# Altium schematic symbol library Video.SchLib: 38 symbols
Pins are listed as number, name and electrical type; pins without a type are passive.

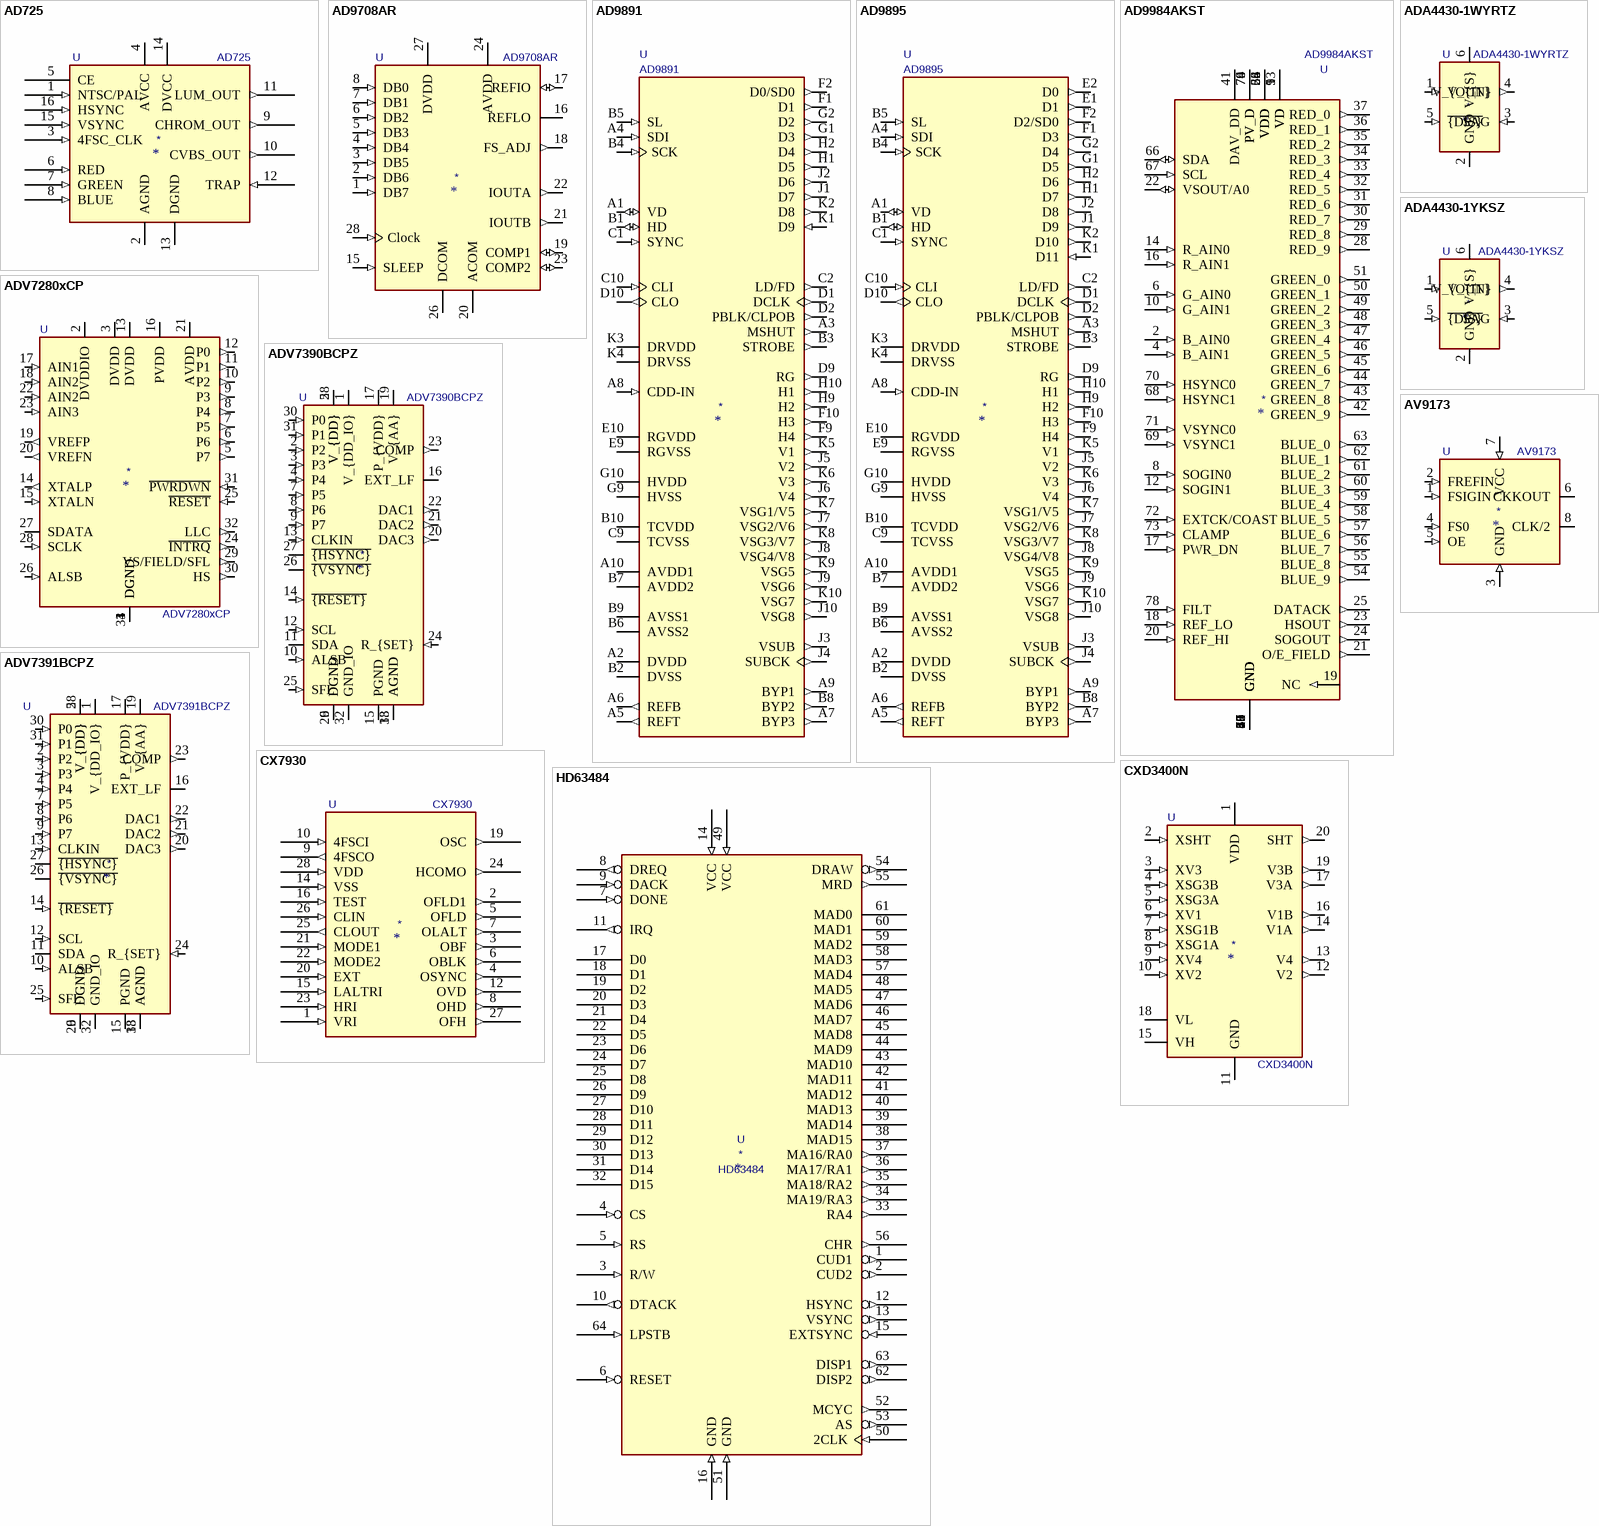
[diagram p0: symbols AD725 to HD63484]

## AD725
designator *  value AD725  Reference: U
Low Cost RGB to NTSC/PAL Encoder with Luma Trap Port; ki_keywords: Video; ki_fp_filters: SOIC*7.5x10.3mm*P1.27mm*; Footprint: Package_SO:SOIC-16W_7.5x10.3mm_P1.27mm; Datasheet: https://www.analog.com/media/en/technical-documentation/data-sheets/AD725.pdf; Description_: Low Cost RGB to NTSC/PAL Encoder with Luma Trap Port
pins: 1 NTSC/PAL (in), 2 AGND (power), 3 4FSC_CLK (in), 4 AVCC (power), 5 CE (power), 6 RED (in), 7 GREEN (in), 8 BLUE (in), 9 CHROM_OUT (out), 10 CVBS_OUT (out), 11 LUM_OUT (out), 12 TRAP (in), 13 DGND (power), 14 DVCC (power), 15 VSYNC (in), 16 HSYNC (in)

## AD9708AR
designator *  value AD9708AR  Reference: U
Video DAC (32 MHz), SOIC/TSSOP-28; ki_keywords: DAC CNA VIDEO; Datasheet: https://www.analog.com/media/en/technical-documentation/data-sheets/AD9708.pdf; Description_: Video DAC (32 MHz), SOIC/TSSOP-28
pins: 1 DB7 (in), 2 DB6 (in), 3 DB5 (in), 4 DB4 (in), 5 DB3 (in), 6 DB2 (in), 7 DB1 (in), 8 DB0 (in), 15 SLEEP (in), 16 REFLO (power), 17 REFIO (io), 18 FS_ADJ (out), 19 COMP1 (io), 20 ACOM (power), 21 IOUTB (out), 22 IOUTA (out), 23 COMP2 (io), 24 AVDD (power), 26 DCOM (power), 27 DVDD (power), 28 Clock (in)

## AD9891
designator *  value AD9891  Reference: U
CCD Signal Processor, 20MHz 10bits, CSPBGA-64; ki_fp_filters: BGA*9.0x9.0mm*Layout10x10*P0.8mm*; Footprint: Package_BGA:BGA-64_9.0x9.0mm_Layout10x10_P0.8mm; Datasheet: https://www.analog.com/static/imported-files/data_sheets/AD9891_9895.pdf; Description_: CCD Signal Processor, 20MHz 10bits, CSPBGA-64; ki_keywords: CCD Signal Processor
pins: A1 VD (io), A2 DVDD (power), A3 MSHUT (out), A4 SDI (in), A5 REFT (out), A6 REFB (out), A7 BYP3 (out), A8 CDD-IN (in), A9 BYP1 (out), A10 AVDD1 (power), B1 HD (io), B2 DVSS (power), B3 STROBE (out), B4 SCK (in), B5 SL (in), B6 AVSS2 (power), B7 AVDD2 (power), B8 BYP2 (out), B9 AVSS1 (power), B10 TCVDD (power), C1 SYNC (in), C2 LD/FD (out), C9 TCVSS (power), C10 CLI (in), D1 DCLK (out), D2 PBLK/CLPOB (out), D9 RG (out), D10 CLO (out), E9 RGVSS (power), E10 RGVDD (power), F1 D1 (out), F2 D0/SD0 (out), F9 H4 (out), F10 H3 (out), G1 D3 (out), G2 D2 (out), G9 HVSS (power), G10 HVDD (power), H1 D5 (out), H2 D4 (out), H9 H2 (out), H10 H1 (out), J1 D7 (out), J2 D6 (out), J3 VSUB (out), J4 SUBCK (out), J5 V2 (out), J6 V4 (out), J7 VSG2/V6 (out), J8 VSG4/V8 (out), J9 VSG6 (out), J10 VSG8 (out), K1 D9 (in), K2 D8 (out), K3 DRVDD (power), K4 DRVSS (power), K5 V1 (out), K6 V3 (out), K7 VSG1/V5 (out), K8 VSG3/V7 (out), K9 VSG5 (out), K10 VSG7 (out)

## AD9895
designator *  value AD9895  Reference: U
CCD Signal Processor, 30MHz 12bits, CSPBGA-64; ki_fp_filters: BGA*9.0x9.0mm*Layout10x10*P0.8mm*; Footprint: Package_BGA:BGA-64_9.0x9.0mm_Layout10x10_P0.8mm; Datasheet: https://www.analog.com/static/imported-files/data_sheets/AD9891_9895.pdf; Description_: CCD Signal Processor, 30MHz 12bits, CSPBGA-64; ki_keywords: CCD Signal Processor
pins: A1 VD (io), A2 DVDD (power), A3 MSHUT (out), A4 SDI (in), A5 REFT (out), A6 REFB (out), A7 BYP3 (out), A8 CDD-IN (in), A9 BYP1 (out), A10 AVDD1 (power), B1 HD (io), B2 DVSS (power), B3 STROBE (out), B4 SCK (in), B5 SL (in), B6 AVSS2 (power), B7 AVDD2 (power), B8 BYP2 (out), B9 AVSS1 (power), B10 TCVDD (power), C1 SYNC (in), C2 LD/FD (out), C9 TCVSS (power), C10 CLI (in), D1 DCLK (out), D2 PBLK/CLPOB (out), D9 RG (out), D10 CLO (out), E1 D1 (out), E2 D0 (out), E9 RGVSS (power), E10 RGVDD (power), F1 D3 (out), F2 D2/SD0 (out), F9 H4 (out), F10 H3 (out), G1 D5 (out), G2 D4 (out), G9 HVSS (power), G10 HVDD (power), H1 D7 (out), H2 D6 (out), H9 H2 (out), H10 H1 (out), J1 D9 (out), J2 D8 (out), J3 VSUB (out), J4 SUBCK (out), J5 V2 (out), J6 V4 (out), J7 VSG2/V6 (out), J8 VSG4/V8 (out), J9 VSG6 (out), J10 VSG8 (out), K1 D11 (in), K2 D10 (out), K3 DRVDD (power), K4 DRVSS (power), K5 V1 (out), K6 V3 (out), K7 VSG1/V5 (out), K8 VSG3/V7 (out), K9 VSG5 (out), K10 VSG7 (out)

## AD9984AKST
designator *  value AD9984AKST  Reference: U
High Performance 10-Bit Display Interface 140/170MSPS, LQFP-80; ki_keywords: 10bit video display interface; ki_fp_filters: *LQFP*14x14mm*P0.65mm*; Footprint: Package_QFP:LQFP-80_14x14mm_P0.65mm; Datasheet: http://www.analog.com/media/en/technical-documentation/data-sheets/AD9984A.pdf; Description_: High Performance 10-Bit Display Interface 140/170MSPS, LQFP-80
pins: 1 VD (power), 2 B_AIN0 (in), 3 GND (power), 4 B_AIN1 (in), 5 VD, 6 G_AIN0 (in), 7 GND, 8 SOGIN0 (in), 9 VD, 10 G_AIN1 (in), 11 GND, 12 SOGIN1 (in), 13 VD, 14 R_AIN0 (in), 15 GND, 16 R_AIN1 (in), 17 PWR_DN (in), 18 REF_LO (in), 19 NC (in), 20 REF_HI (in), 21 O/E_FIELD (out), 22 VSOUT/A0 (io), 23 HSOUT (out), 24 SOGOUT (out), 25 DATACK (out), 26 VDD (power), 27 GND, 28 RED_9 (out), 29 RED_8 (out), 30 RED_7 (out), 31 RED_6 (out), 32 RED_5 (out), 33 RED_4 (out), 34 RED_3 (out), 35 RED_2 (out), 36 RED_1 (out), 37 RED_0 (out), 38 VDD, 39 GND, 40 GND, 41 DAV_DD (power), 42 GREEN_9 (out), 43 GREEN_8 (out), 44 GREEN_7 (out), 45 GREEN_6 (out), 46 GREEN_5 (out), 47 GREEN_4 (out), 48 GREEN_3 (out), 49 GREEN_2 (out), 50 GREEN_1 (out), 51 GREEN_0 (out), 52 VDD, 53 GND, 54 BLUE_9 (out), 55 BLUE_8 (out), 56 BLUE_7 (out), 57 BLUE_6 (out), 58 BLUE_5 (out), 59 BLUE_4 (out), 60 BLUE_3 (out), 61 BLUE_2 (out), 62 BLUE_1 (out), 63 BLUE_0 (out), 64 VDD, 65 GND, 66 SDA (io), 67 SCL (in), 68 HSYNC1 (in), 69 VSYNC1 (in), 70 HSYNC0 (in), 71 VSYNC0 (in), 72 EXTCK/COAST (in), 73 CLAMP (in), 74 PV_D (power), 75 GND, 76 PV_D, 77 GND, 78 FILT (in), 79 PV_D, 80 GND
1 alternate drawing of the same symbol

## ADA4430-1WYRTZ
designator *  value ADA4430-1WYRTZ  Reference: U
Ultralow Power, Video Filter, Power-Down, SOT-23; ki_fp_filters: SOT?23*; Footprint: Package_TO_SOT_SMD:SOT-23-6; Datasheet: https://www.analog.com/media/en/technical-documentation/data-sheets/ADA4430-1.pdf; Description_: Ultralow Power, Video Filter, Power-Down, SOT-23; ki_keywords: Video Filter
pins: 1 V_{IN} (in), 2 GND (power), 3 SAG (in), 4 V_{OUT} (out), 5 ~{{DIS}} (in), 6 V_{S} (power)

## ADA4430-1YKSZ
designator *  value ADA4430-1YKSZ  Reference: U
Ultralow Power, Video Filter, Power-Down, SOT-363; ki_fp_filters: SOT?363*; Footprint: Package_TO_SOT_SMD:SOT-363_SC-70-6; Datasheet: https://www.analog.com/media/en/technical-documentation/data-sheets/ADA4430-1.pdf; Description_: Ultralow Power, Video Filter, Power-Down, SOT-363; ki_keywords: Video Filter
pins: 1 V_{IN} (in), 2 GND (power), 3 SAG (in), 4 V_{OUT} (out), 5 ~{{DIS}} (in), 6 V_{S} (power)

## ADV7280xCP
designator *  value ADV7280xCP  Reference: U
10-Bit, 4x Oversampled SDTV Video Decoder with Deinterlacer, LFCSP-32; ki_fp_filters: LFCSP*1EP*5x5mm*P0.5mm*; Footprint: Package_CSP:LFCSP-32-1EP_5x5mm_P0.5mm_EP3.6x3.6mm; Datasheet: https://www.analog.com/media/en/technical-documentation/data-sheets/ADV7280.PDF; Description_: 10-Bit, 4x Oversampled SDTV Video Decoder with Deinterlacer, LFCSP-32; ki_keywords: video decoder
pins: 1 DGND (power), 2 DVDDIO (power), 3 DVDD (power), 4 DGND, 5 P7 (out), 6 P6 (out), 7 P5 (out), 8 P4 (out), 9 P3 (out), 10 P2 (out), 11 P1 (out), 12 P0 (out), 13 DVDD (power), 14 XTALP (out), 15 XTALN (in), 16 PVDD (power), 17 AIN1 (in), 18 AIN2 (in), 19 VREFP (out), 20 VREFN (out), 21 AVDD (power), 22 AIN2 (in), 23 AIN3 (in), 24 ~{INTRQ} (out), 25 ~{RESET} (in), 26 ALSB (in), 27 SDATA (io), 28 SCLK (in), 29 VS/FIELD/SFL (out), 30 HS (out), 31 ~{PWRDWN} (in), 32 LLC (out), 33 DGND

## ADV7390BCPZ
designator *  value ADV7390BCPZ  Reference: U
10-Bit SD/HD Video Encoder, Macrovision Antitaping, LFCSP-32; ki_fp_filters: LFCSP*1EP*5x5mm*P0.5mm*; Footprint: Package_CSP:LFCSP-32-1EP_5x5mm_P0.5mm_EP3.1x3.1mm; Datasheet: https://www.analog.com/media/en/technical-documentation/data-sheets/ADV7390_7391_7392_7393.pdf; Description_: 10-Bit SD/HD Video Encoder, Macrovision Antitaping, LFCSP-32; ki_keywords: Video Encoder
pins: 1 V_{DD_IO} (power), 2 P2 (in), 3 P3 (in), 4 P4 (in), 5 V_{DD} (power), 6 DGND (power), 7 P5 (in), 8 P6 (in), 9 P7 (in), 10 ALSB (in), 11 SDA (io), 12 SCL (in), 13 CLKIN (in), 14 ~{{RESET}} (in), 15 PGND (power), 16 EXT_LF, 17 P_{VDD} (power), 18 AGND (power), 19 V_{AA} (power), 20 DAC3 (out), 21 DAC2 (out), 22 DAC1 (out), 23 COMP (out), 24 R_{SET} (in), 25 SFL (in), 26 ~{{VSYNC}} (io), 27 ~{{HSYNC}} (io), 28 V_{DD}, 29 DGND, 30 P0 (in), 31 P1 (in), 32 GND_IO (power), 33 AGND

## ADV7391BCPZ
designator *  value ADV7391BCPZ  Reference: U
10-Bit SD/HD Video Encoder, LFCSP-32; ki_fp_filters: LFCSP*1EP*5x5mm*P0.5mm*; Footprint: Package_CSP:LFCSP-32-1EP_5x5mm_P0.5mm_EP3.1x3.1mm; Datasheet: https://www.analog.com/media/en/technical-documentation/data-sheets/ADV7390_7391_7392_7393.pdf; Description_: 10-Bit SD/HD Video Encoder, LFCSP-32; ki_keywords: Video Encoder
pins: 1 V_{DD_IO} (power), 2 P2 (in), 3 P3 (in), 4 P4 (in), 5 V_{DD} (power), 6 DGND (power), 7 P5 (in), 8 P6 (in), 9 P7 (in), 10 ALSB (in), 11 SDA (io), 12 SCL (in), 13 CLKIN (in), 14 ~{{RESET}} (in), 15 PGND (power), 16 EXT_LF, 17 P_{VDD} (power), 18 AGND (power), 19 V_{AA} (power), 20 DAC3 (out), 21 DAC2 (out), 22 DAC1 (out), 23 COMP (out), 24 R_{SET} (in), 25 SFL (in), 26 ~{{VSYNC}} (io), 27 ~{{HSYNC}} (io), 28 V_{DD}, 29 DGND, 30 P0 (in), 31 P1 (in), 32 GND_IO (power), 33 AGND

## AV9173
designator *  value AV9173  Reference: U
Video Genlock PLL; ki_keywords: video pll; Datasheet: http://www.ibselectronics.com/ibsstore/datasheet/Others/AV9173-01CN08.pdf; Description_: Video Genlock PLL
pins: 1 FSIGIN (in), 2 FREFIN (in), 3 GND (in), 4 FS0 (in), 5 OE (in), 6 CKKOUT (hiz), 7 VCC (in), 8 CLK/2 (hiz)

## CX7930
designator *  value CX7930  Reference: U
pins: 1 VRI (in), 2 OFLD1 (out), 3 OBF (out), 4 OSYNC (out), 5 OFLD (out), 6 OBLK (out), 7 OLALT (out), 8 OHD (out), 9 4FSCO (out), 10 4FSCI (in), 12 OVD (out), 14 VSS (in), 15 LALTRI (in), 16 TEST (in), 19 OSC (out), 20 EXT (in), 21 MODE1 (in), 22 MODE2 (in), 23 HRI (in), 24 HCOMO (out), 25 CLOUT (out), 26 CLIN (in), 27 OFH (out), 28 VDD (in)

## CXD3400N
designator *  value CXD3400N  Reference: U
6-channel Vertical Clock Driver for CCD Image Sensor, SSOP-20; ki_keywords: CCD Clock Driver; ki_fp_filters: SSOP*; Datasheet: video\cxd3400n.pdf; Description_: 6-channel Vertical Clock Driver for CCD Image Sensor, SSOP-20
pins: 1 VDD (power), 2 XSHT (in), 3 XV3 (in), 4 XSG3B (in), 5 XSG3A (in), 6 XV1 (in), 7 XSG1B (in), 8 XSG1A (in), 9 XV4 (in), 10 XV2 (in), 11 GND (power), 12 V2 (out), 13 V4 (out), 14 V1A (out), 15 VH (power), 16 V1B (out), 17 V3A (out), 18 VL (power), 19 V3B (out), 20 SHT (out)

## HD63484
designator *  value HD63484  Reference: U
pins: 1 CUD1 (out), 2 CUD2 (out), 3 R/W (in), 4 CS (in), 5 RS (in), 6 RESET (in), 7 DONE (in), 8 DREQ (out), 9 DACK (in), 10 DTACK (out), 11 IRQ (out), 12 HSYNC (out), 13 VSYNC (out), 14 VCC (in), 15 EXTSYNC (in), 16 GND (in), 17 D0 (hiz), 18 D1 (hiz), 19 D2 (hiz), 20 D3 (hiz), 21 D4 (hiz), 22 D5 (hiz), 23 D6 (hiz), 24 D7 (hiz), 25 D8 (hiz), 26 D9 (hiz), 27 D10 (hiz), 28 D11 (hiz), 29 D12 (hiz), 30 D13 (hiz), 31 D14 (hiz), 32 D15 (hiz), 33 RA4 (out), 34 MA19/RA3 (out), 35 MA18/RA2 (out), 36 MA17/RA1 (out), 37 MA16/RA0 (out), 38 MAD15 (hiz), 39 MAD14 (hiz), 40 MAD13 (hiz), 41 MAD12 (hiz), 42 MAD11 (hiz), 43 MAD10 (hiz), 44 MAD9 (hiz), 45 MAD8 (hiz), 46 MAD7 (hiz), 47 MAD6 (hiz), 48 MAD5 (hiz), 49 VCC (in), 50 2CLK (in), 51 GND (in), 52 MCYC (out), 53 AS (out), 54 DRAW (out), 55 MRD (out), 56 CHR (out), 57 MAD4 (hiz), 58 MAD3 (hiz), 59 MAD2 (hiz), 60 MAD1 (hiz), 61 MAD0 (hiz), 62 DISP2 (out), 63 DISP1 (out), 64 LPSTB (in)

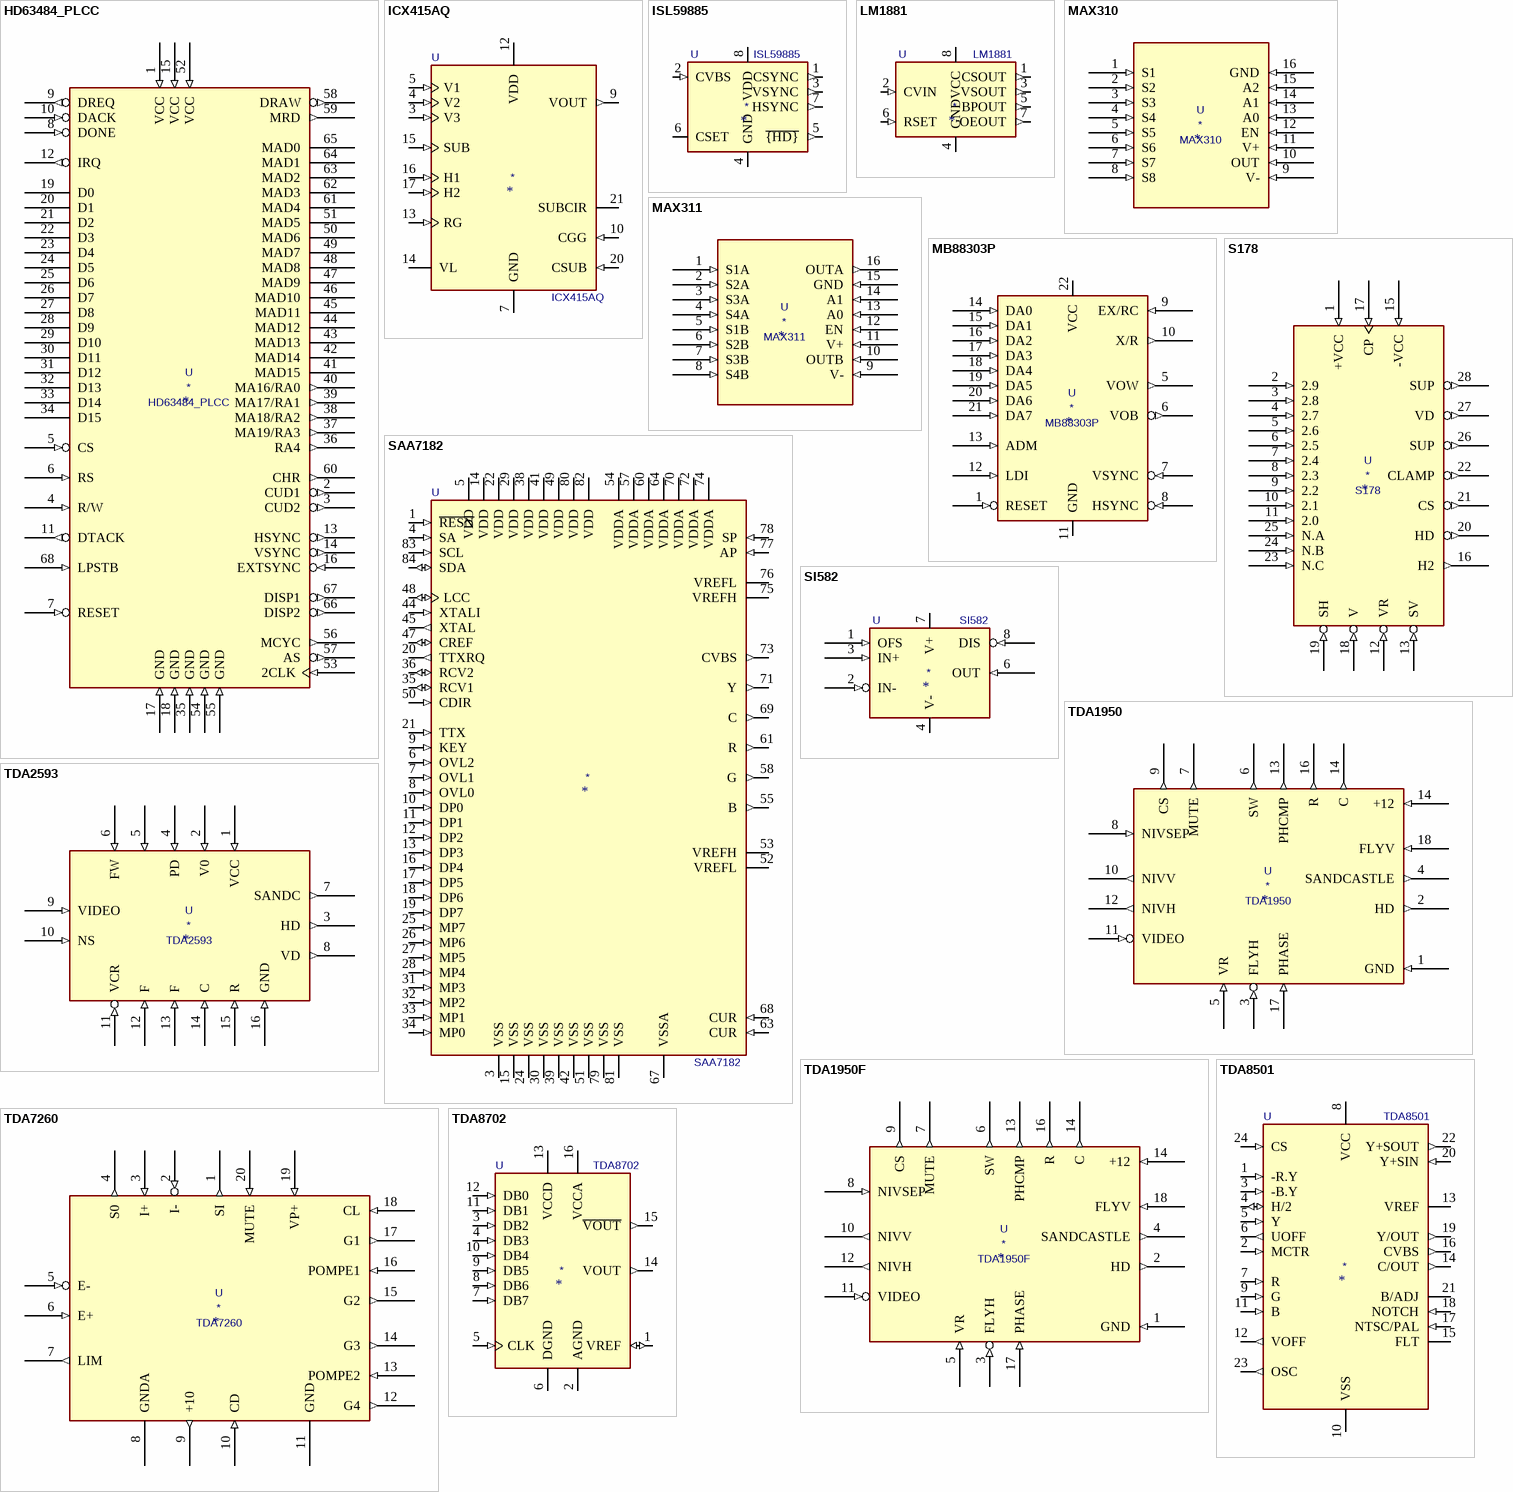
[diagram p1: symbols HD63484_PLCC to TDA8702]

## HD63484_PLCC
designator *  value HD63484_PLCC  Reference: U
pins: 1 VCC (in), 2 CUD1 (out), 3 CUD2 (out), 4 R/W (in), 5 CS (in), 6 RS (in), 7 RESET (in), 8 DONE (in), 9 DREQ (out), 10 DACK (in), 11 DTACK (out), 12 IRQ (out), 13 HSYNC (out), 14 VSYNC (out), 15 VCC (in), 16 EXTSYNC (in), 17 GND (in), 18 GND (in), 19 D0 (hiz), 20 D1 (hiz), 21 D2 (hiz), 22 D3 (hiz), 23 D4 (hiz), 24 D5 (hiz), 25 D6 (hiz), 26 D7 (hiz), 27 D8 (hiz), 28 D9 (hiz), 29 D10 (hiz), 30 D11 (hiz), 31 D12 (hiz), 32 D13 (hiz), 33 D14 (hiz), 34 D15 (hiz), 35 GND (in), 36 RA4 (out), 37 MA19/RA3 (out), 38 MA18/RA2 (out), 39 MA17/RA1 (out), 40 MA16/RA0 (out), 41 MAD15 (hiz), 42 MAD14 (hiz), 43 MAD13 (hiz), 44 MAD12 (hiz), 45 MAD11 (hiz), 46 MAD10 (hiz), 47 MAD9 (hiz), 48 MAD8 (hiz), 49 MAD7 (hiz), 50 MAD6 (hiz), 51 MAD5 (hiz), 52 VCC (in), 53 2CLK (in), 54 GND (in), 55 GND (in), 56 MCYC (out), 57 AS (out), 58 DRAW (out), 59 MRD (out), 60 CHR (out), 61 MAD4 (hiz), 62 MAD3 (hiz), 63 MAD2 (hiz), 64 MAD1 (hiz), 65 MAD0 (hiz), 66 DISP2 (out), 67 DISP1 (out), 68 LPSTB (in)

## ICX415AQ
designator *  value ICX415AQ  Reference: U
Diagonal 8mm B/W Progressive Scan CCD Image Sensor with Square Pixel, CERDIP-22; ki_keywords: CCD B/W Image Sensor; Description_: Diagonal 8mm B/W Progressive Scan CCD Image Sensor with Square Pixel, CERDIP-22
pins: 3 V3 (in), 4 V2 (in), 5 V1 (in), 7 GND (power), 9 VOUT (out), 10 CGG (in), 12 VDD (power), 13 RG (in), 14 VL (power), 15 SUB (in), 16 H1 (in), 17 H2 (in), 20 CSUB (in), 21 SUBCIR (power)

## ISL59885
designator *  value ISL59885  Reference: U
Sync Separator for HD and SD Video, SOIC-8; ki_keywords: video sync separator csync hsync vsync; ki_fp_filters: SOIC*3.9x4.9mm*P1.27mm*; Footprint: Package_SO:SOIC-8_3.9x4.9mm_P1.27mm; Datasheet: https://www.renesas.com/us/en/document/dst/isl59885-datasheet?r=533081; Description_: Sync Separator for HD and SD Video, SOIC-8
pins: 1 CSYNC (out), 2 CVBS (in), 3 VSYNC (out), 4 GND (power), 5 ~{{HD}} (out), 6 CSET, 7 HSYNC (out), 8 VDD (power)

## LM1881
designator *  value LM1881  Reference: U
Video Sync Separator, composite sync and vertical sync outputs, DIP-8 / SOIC-8; ki_keywords: National-Semiconductor Texas-Instruments NTSC PAL SECAM composite-video CVBS LM1881MX/NOPB LM1881N; ki_fp_filters: *SO*3.9x4.9mm*P1.27mm* DIP?8?W7.62mm*; Datasheet: https://www.ti.com/lit/ds/symlink/lm1881.pdf; Description_: Video Sync Separator, composite sync and vertical sync outputs, DIP-8 / SOIC-8
pins: 1 CSOUT (out), 2 CVIN (in), 3 VSOUT (out), 4 GND (power), 5 BPOUT (out), 6 RSET (in), 7 OEOUT (out), 8 VCC (power)

## MAX310
designator *  value MAX310  Reference: U
8-Channel CMOS RF Video Multiplexer; ki_keywords: video rf; Datasheet: https://datasheets.maximintegrated.com/en/ds/MAX310-MAX311.pdf; Description_: 8-Channel CMOS RF Video Multiplexer
pins: 1 S1 (in), 2 S2 (in), 3 S3 (in), 4 S4 (in), 5 S5 (in), 6 S6 (in), 7 S7 (in), 8 S8 (in), 9 V- (in), 10 OUT (in), 11 V+ (in), 12 EN (in), 13 A0 (in), 14 A1 (in), 15 A2 (in), 16 GND (in)

## MAX311
designator *  value MAX311  Reference: U
8-Channel CMOS RF Video Multiplexer; ki_keywords: video rf; Datasheet: https://datasheets.maximintegrated.com/en/ds/MAX310-MAX311.pdf; Description_: 8-Channel CMOS RF Video Multiplexer
pins: 1 S1A (in), 2 S2A (in), 3 S3A (in), 4 S4A (in), 5 S1B (in), 6 S2B (in), 7 S3B (in), 8 S4B (in), 9 V- (in), 10 OUTB (in), 11 V+ (in), 12 EN (in), 13 A0 (in), 14 A1 (in), 15 GND (in), 16 OUTA (out)

## MB88303P
designator *  value MB88303P  Reference: U
pins: 1 RESET (in), 5 VOW (out), 6 VOB (out), 7 VSYNC (in), 8 HSYNC (in), 9 EX/RC (in), 10 X/R (out), 11 GND (power), 12 LDI (in), 13 ADM (in), 14 DA0 (in), 15 DA1 (in), 16 DA2 (in), 17 DA3 (in), 18 DA4 (in), 19 DA5 (in), 20 DA6 (in), 21 DA7 (in), 22 VCC (power)

## S178
designator *  value S178  Reference: U
pins: 1 +VCC (in), 2 2.9 (in), 3 2.8 (in), 4 2.7 (in), 5 2.6 (in), 6 2.5 (in), 7 2.4 (in), 8 2.3 (in), 9 2.2 (in), 10 2.1 (in), 11 2.0 (in), 12 VR (in), 13 SV (in), 15 -VCC (in), 16 H2 (out), 17 CP (in), 18 V (in), 19 SH (in), 20 HD (out), 21 CS (out), 22 CLAMP (out), 23 N.C (in), 24 N.B (in), 25 N.A (in), 26 SUP (out), 27 VD (out), 28 SUP (out)

## SAA7182
designator *  value SAA7182  Reference: U
Digital Video Encoder, Obsolete; Datasheet: http://rcl-radio.ru/wp-content/uploads/2014/11/SAA7182.pdf; Description_: Digital Video Encoder, Obsolete; ki_keywords: Video Encoder
pins: 1 ~{RESN} (in), 3 VSS (power), 4 SA (in), 5 VDD (power), 6 OVL2 (in), 7 OVL1 (in), 8 OVL0 (in), 9 KEY (in), 10 DP0 (in), 11 DP1 (in), 12 DP2 (in), 13 DP3 (in), 14 VDD (power), 15 VSS (power), 16 DP4 (in), 17 DP5 (in), 18 DP6 (in), 19 DP7 (in), 20 TTXRQ (out), 21 TTX (in), 22 VDD (power), 24 VSS (power), 25 MP7 (in), 26 MP6 (in), 27 MP5 (in), 28 MP4 (in), 29 VDD (power), 30 VSS (power), 31 MP3 (in), 32 MP2 (in), 33 MP1 (in), 34 MP0 (in), 35 RCV1 (io), 36 RCV2 (io), 38 VDD (power), 39 VSS (power), 41 VDD (power), 42 VSS (power), 44 XTALI (in), 45 XTAL (out), 47 CREF (io), 48 LCC (io), 49 VDD (power), 50 CDIR (in), 51 VSS (power), 52 VREFL, 53 VREFH, 54 VDDA (power), 55 B (out), 57 VDDA (power), 58 G (out), 60 VDDA (power), 61 R (out), 63 CUR (in), 64 VDDA (power), 67 VSSA (power), 68 CUR (in), 69 C (out), 70 VDDA (power), 71 Y (out), 72 VDDA (power), 73 CVBS (out), 74 VDDA (power), 75 VREFH, 76 VREFL, 77 AP (in), 78 SP (in), 79 VSS (power), 80 VDD (power), 81 VSS (power), 82 VDD (power), 83 SCL (in), 84 SDA (io)

## SI582
designator *  value SI582  Reference: U
pins: 1 OFS (in), 2 IN- (in), 3 IN+ (in), 4 V- (power), 6 OUT (in), 7 V+ (power), 8 DIS (in)

## TDA1950
designator *  value TDA1950  Reference: U
pins: 1 GND (in), 2 HD (out), 3 FLYH (in), 4 SANDCASTLE (out), 5 VR (in), 6 SW (out), 7 MUTE (out), 8 NIVSEP (in), 9 CS (out), 10 NIVV (out), 11 VIDEO (in), 12 NIVH (out), 13 PHCMP (out), 14 C (out), 14 +12 (in), 16 R (out), 17 PHASE (in), 18 FLYV (in)

## TDA1950F
designator *  value TDA1950F  Reference: U
pins: 1 GND (in), 2 HD (out), 3 FLYH (in), 4 SANDCASTLE (out), 5 VR (in), 6 SW (out), 7 MUTE (out), 8 NIVSEP (in), 9 CS (out), 10 NIVV (out), 11 VIDEO (in), 12 NIVH (out), 13 PHCMP (out), 14 C (out), 14 +12 (in), 16 R (out), 17 PHASE (in), 18 FLYV (in)

## TDA2593
designator *  value TDA2593  Reference: U
pins: 1 VCC (in), 2 V0 (in), 3 HD (out), 4 PD (in), 5 (in), 6 FW (in), 7 SANDC (out), 8 VD (out), 9 VIDEO (in), 10 NS (in), 11 VCR (in), 12 F (in), 13 F (in), 14 C (in), 15 R (in), 16 GND (in)

## TDA7260
designator *  value TDA7260  Reference: U
pins: 1 SI (out), 2 I- (in), 3 I+ (in), 4 S0 (out), 5 E- (in), 6 E+ (in), 7 LIM (out), 8 GNDA (power), 9 +10 (out), 10 CD (in), 11 GND (power), 12 G4 (out), 13 POMPE2 (in), 14 G3 (out), 15 G2 (out), 16 POMPE1 (in), 17 G1 (out), 18 CL (in), 19 VP+ (in), 20 MUTE (in)

## TDA8501
designator *  value TDA8501  Reference: U
PAL/NTSC Encoder, RGB or Y/Y-R/Y-B Inputs, DIP/SOIC-20; ki_keywords: Video Encoder; ki_fp_filters: DIP* PDIP* SOIC*; Datasheet: https://assets.nexperia.com/documents/data-sheet/TDA8501.pdf; Description_: PAL/NTSC Encoder, RGB or Y/Y-R/Y-B Inputs, DIP/SOIC-20
pins: 1 -R.Y (in), 2 MCTR (in), 3 -B.Y (in), 4 H/2 (io), 5 Y (in), 6 UOFF (out), 7 R (in), 8 VCC (power), 9 G (in), 10 VSS (power), 11 B (in), 12 VOFF (out), 13 VREF, 14 C/OUT (out), 15 FLT, 16 CVBS (out), 17 NTSC/PAL (in), 18 NOTCH (in), 19 Y/OUT (out), 20 Y+SIN (in), 21 B/ADJ, 22 Y+SOUT (out), 23 OSC (out), 24 CS (in)

## TDA8702
designator *  value TDA8702  Reference: U
8bit Video DAC (32 MHz), DIP-16; ki_keywords: DAC CNA VIDEO; ki_fp_filters: DIP* PDIP* SO* SOIC*; Datasheet: philips/tda8702.pdf; Description_: 8bit Video DAC (32 MHz), DIP-16
pins: 1 VREF (io), 2 AGND (power), 3 DB2 (in), 4 DB3 (in), 5 CLK (in), 6 DGND (power), 7 DB7 (in), 8 DB6 (in), 9 DB5 (in), 10 DB4 (in), 11 DB1 (in), 12 DB0 (in), 13 VCCD (power), 14 VOUT (out), 15 ~{VOUT} (out), 16 VCCA (power)

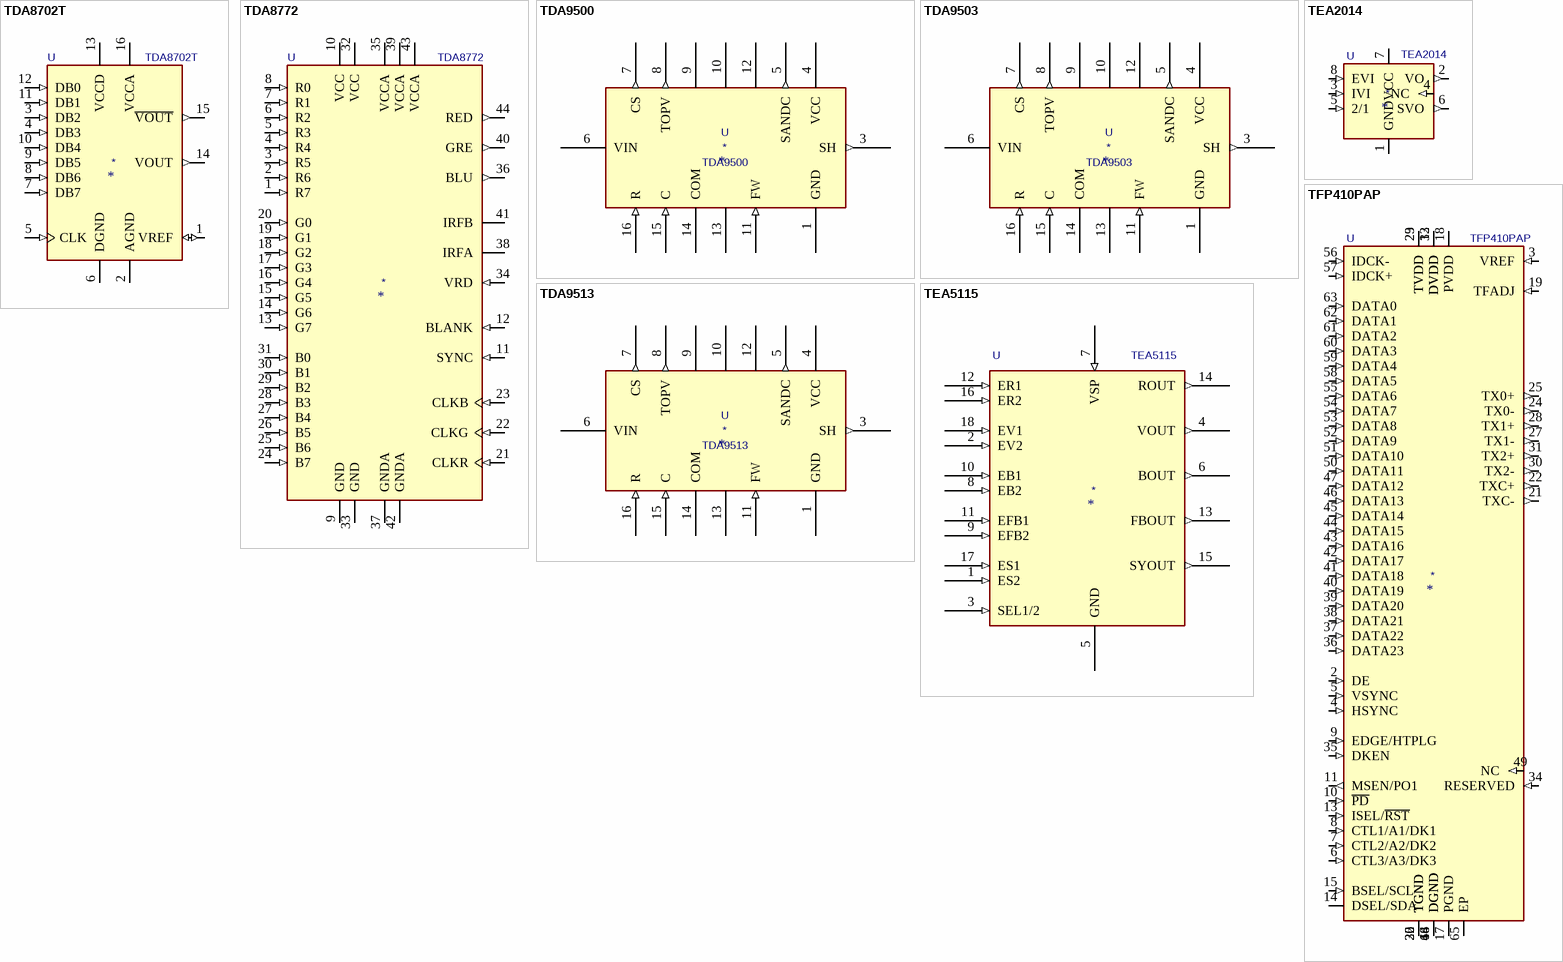
[diagram p2: symbols TDA8702T to TFP410PAP]

## TDA8702T
designator *  value TDA8702T  Reference: U
8bit Video DAC (32 MHz), SOIC-16; ki_keywords: DAC CNA VIDEO; ki_fp_filters: DIP* PDIP* SO* SOIC*; Datasheet: philips/tda8702.pdf; Description_: 8bit Video DAC (32 MHz), SOIC-16
pins: 1 VREF (io), 2 AGND (power), 3 DB2 (in), 4 DB3 (in), 5 CLK (in), 6 DGND (power), 7 DB7 (in), 8 DB6 (in), 9 DB5 (in), 10 DB4 (in), 11 DB1 (in), 12 DB0 (in), 13 VCCD (power), 14 VOUT (out), 15 ~{VOUT} (out), 16 VCCA (power)

## TDA8772
designator *  value TDA8772  Reference: U
Triple 8bit Video DAC, QFP-44; ki_keywords: Video DAC Colour 8bit; ki_fp_filters: QFP*; Datasheet: http://www.pa0qy.nl/pdf/TDA8772.PDF; Description_: Triple 8bit Video DAC, QFP-44
pins: 1 R7 (in), 2 R6 (in), 3 R5 (in), 4 R4 (in), 5 R3 (in), 6 R2 (in), 7 R1 (in), 8 R0 (in), 9 GND (power), 10 VCC (power), 11 SYNC (in), 12 BLANK (in), 13 G7 (in), 14 G6 (in), 15 G5 (in), 16 G4 (in), 17 G3 (in), 18 G2 (in), 19 G1 (in), 20 G0 (in), 21 CLKR (in), 22 CLKG (in), 23 CLKB (in), 24 B7 (in), 25 B6 (in), 26 B5 (in), 27 B4 (in), 28 B3 (in), 29 B2 (in), 30 B1 (in), 31 B0 (in), 32 VCC (power), 33 GND (power), 34 VRD (in), 35 VCCA (power), 36 BLU (out), 37 GNDA (power), 38 IRFA, 39 VCCA (power), 40 GRE (out), 41 IRFB, 42 GNDA (power), 43 VCCA (power), 44 RED (out)

## TDA9500
designator *  value TDA9500  Reference: U
pins: 1 GND (power), 3 SH (out), 4 VCC (power), 5 SANDC (out), 6 VIN (power), 7 CS (out), 8 TOPV (out), 9, 10, 11 FW (in), 12, 13, 14 COM, 15 C (in), 16 R (in)

## TDA9503
designator *  value TDA9503  Reference: U
pins: 1 GND (power), 3 SH (out), 4 VCC (power), 5 SANDC (out), 6 VIN (power), 7 CS (out), 8 TOPV (out), 9, 10, 11 FW (in), 12, 13, 14 COM, 15 C (in), 16 R (in)

## TDA9513
designator *  value TDA9513  Reference: U
pins: 1 GND (power), 3 SH (out), 4 VCC (power), 5 SANDC (out), 6 VIN (power), 7 CS (out), 8 TOPV (out), 9, 10, 11 FW (in), 12, 13, 14 COM, 15 C (in), 16 R (in)

## TEA2014
designator *  value TEA2014  Reference: U
Video switching circuite for TV, DIP-8; ki_fp_filters: DIP*W7.62mm*; Footprint: Package_DIP:DIP-8_W7.62mm; Datasheet: http://pdf1.alldatasheet.com/datasheet-pdf/view/123244/STMICROELECTRONICS/TEA2014.html; Description_: Video switching circuite for TV, DIP-8; ki_keywords: Video switching circuite for TV
pins: 1 GND (power), 2 VO (out), 3 IVI (in), 4 NC (in), 5 2/1 (in), 6 SVO (out), 7 VCC (power), 8 EVI (in)

## TEA5115
designator *  value TEA5115  Reference: U
pins: 1 ES2 (in), 2 EV2 (in), 3 SEL1/2 (in), 4 VOUT (out), 5 GND (power), 6 BOUT (out), 7 VSP (in), 8 EB2 (in), 9 EFB2 (in), 10 EB1 (in), 11 EFB1 (in), 12 ER1 (in), 13 FBOUT (out), 14 ROUT (out), 15 SYOUT (out), 16 ER2 (in), 17 ES1 (in), 18 EV1 (in)

## TFP410PAP
designator *  value TFP410PAP  Reference: U
Digital Visual Interface Compliant PanelBus Digital Transmitter, HTQFP-64; ki_keywords: DVI Encoder Driver; ki_fp_filters: HTQFP*1EP*10x10mm*P0.5mm*; Footprint: Package_QFP:HTQFP-64-1EP_10x10mm_P0.5mm_EP8x8mm_Mask4.4x4.4mm_ThermalVias; Datasheet: http://www.ti.com/lit/ds/symlink/tfp410.pdf; Description_: Digital Visual Interface Compliant PanelBus Digital Transmitter, HTQFP-64
pins: 1 DVDD (power), 2 DE (in), 3 VREF (in), 4 HSYNC (in), 5 VSYNC (in), 6 CTL3/A3/DK3 (in), 7 CTL2/A2/DK2 (in), 8 CTL1/A1/DK1 (in), 9 EDGE/HTPLG (in), 10 ~{PD} (in), 11 MSEN/PO1 (out), 12 DVDD, 13 ISEL/~{RST} (in), 14 DSEL/SDA (io), 15 BSEL/SCL (in), 16 DGND (power), 17 PGND (power), 18 PVDD (power), 19 TFADJ (in), 20 TGND (power), 21 TXC- (out), 22 TXC+ (out), 23 TVDD (power), 24 TX0- (out), 25 TX0+ (out), 26 TGND, 27 TX1- (out), 28 TX1+ (out), 29 TVDD, 30 TX2- (out), 31 TX2+ (out), 32 TGND, 33 DVDD, 34 RESERVED (in), 35 DKEN (in), 36 DATA23 (in), 37 DATA22 (in), 38 DATA21 (in), 39 DATA20 (in), 40 DATA19 (in), 41 DATA18 (in), 42 DATA17 (in), 43 DATA16 (in), 44 DATA15 (in), 45 DATA14 (in), 46 DATA13 (in), 47 DATA12 (in), 48 DGND, 49 NC (in), 50 DATA11 (in), 51 DATA10 (in), 52 DATA9 (in), 53 DATA8 (in), 54 DATA7 (in), 55 DATA6 (in), 56 IDCK- (in), 57 IDCK+ (in), 58 DATA5 (in), 59 DATA4 (in), 60 DATA3 (in), 61 DATA2 (in), 62 DATA1 (in), 63 DATA0 (in), 64 DGND, 65 EP (power)